# Altium schematic symbol library ecl.SCHLIB: 54 symbols
Pins are listed as number, name and electrical type; pins without a type are passive.

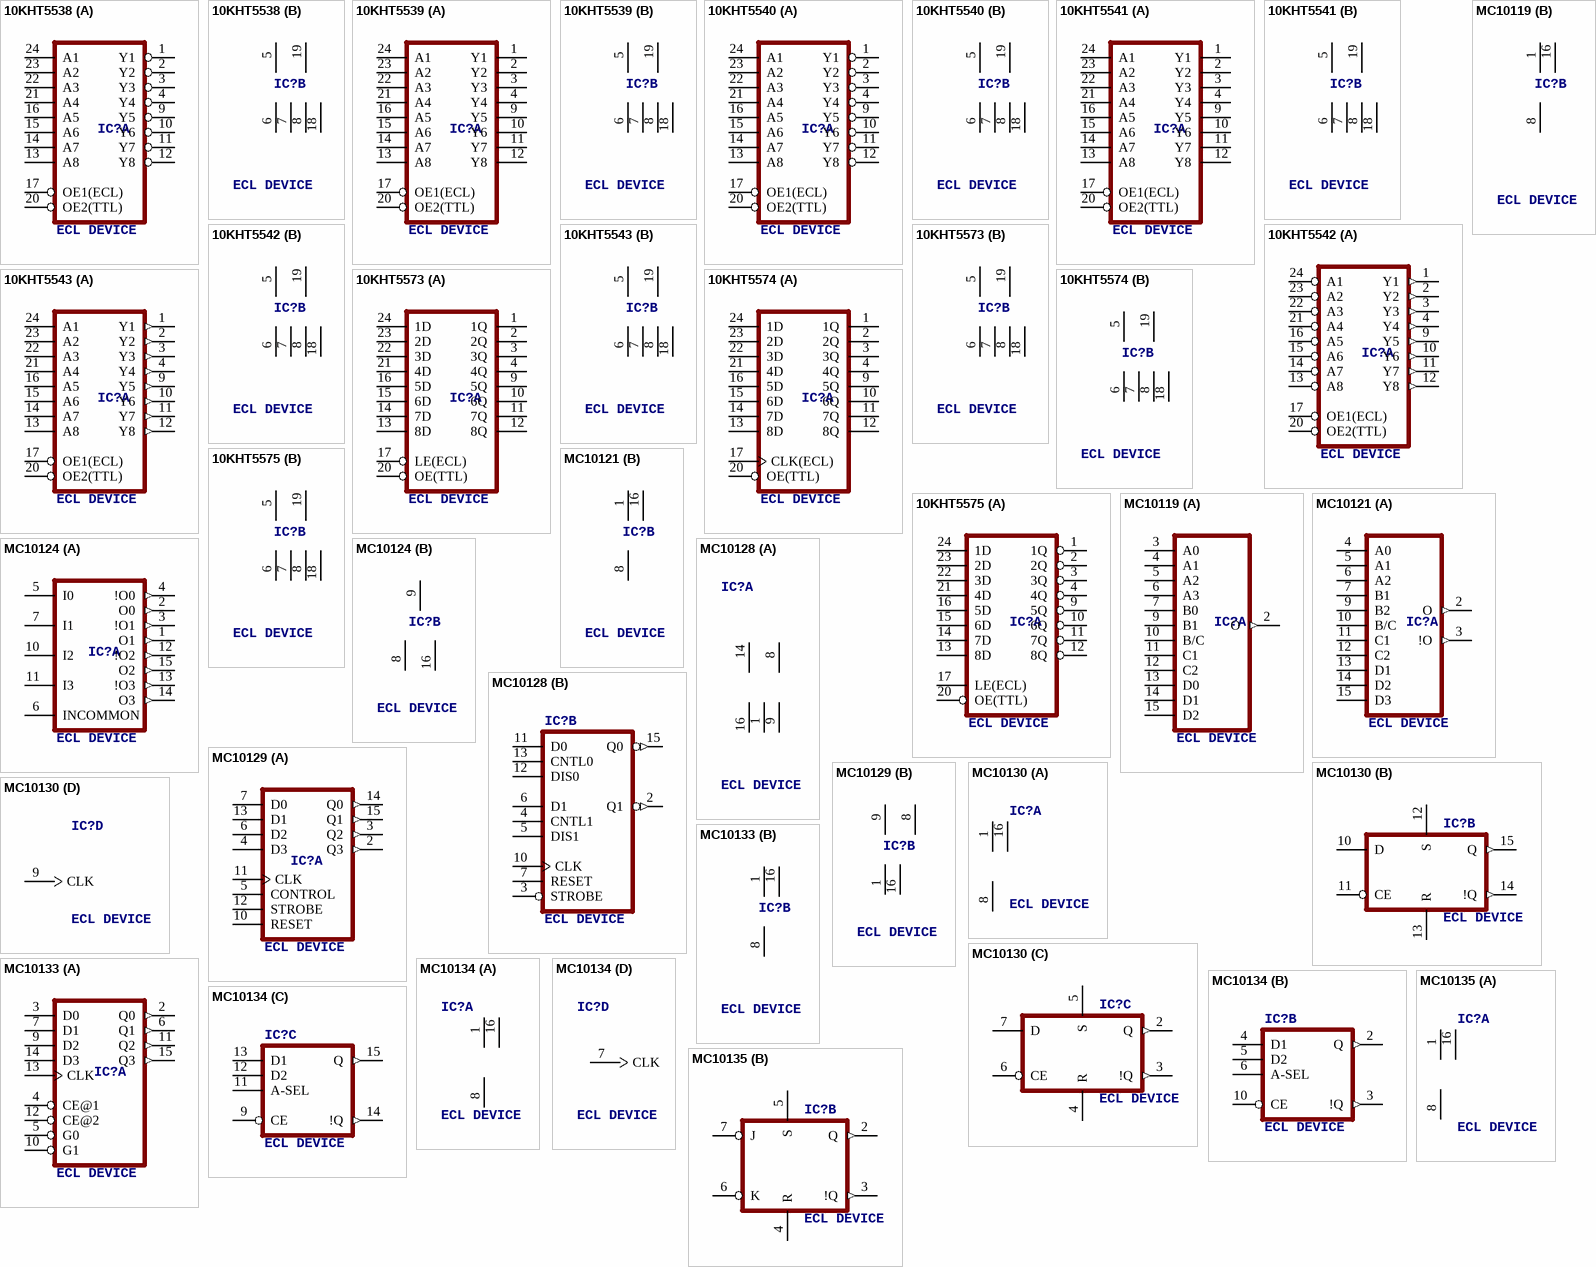
[diagram p0: symbols 10KHT5538 to MC10135]

## 10KHT5538
designator IC?, comment ECL DEVICE
footprint DIL24-3
part A pins: 1 Y1 (oc), 2 Y2 (oc), 3 Y3 (oc), 4 Y4 (oc), 9 Y5 (oc), 10 Y6 (oc), 11 Y7 (oc), 12 Y8 (oc), 13 A8, 14 A7, 15 A6, 16 A5, 17 OE1(ECL), 20 OE2(TTL), 21 A4, 22 A3, 23 A2, 24 A1
part B pins: 5 VCC (power), 6 GND@1 (power), 7 GND@2 (power), 8 GND@3 (power), 18 GND@4 (power), 19 VEE (power)

## 10KHT5539
designator IC?, comment ECL DEVICE
footprint DIL24-3
part A pins: 1 Y1 (oc), 2 Y2 (oc), 3 Y3 (oc), 4 Y4 (oc), 9 Y5 (oc), 10 Y6 (oc), 11 Y7 (oc), 12 Y8 (oc), 13 A8, 14 A7, 15 A6, 16 A5, 17 OE1(ECL), 20 OE2(TTL), 21 A4, 22 A3, 23 A2, 24 A1
part B pins: 5 VCC (power), 6 GND@1 (power), 7 GND@2 (power), 8 GND@3 (power), 18 GND@4 (power), 19 VEE (power)

## 10KHT5540
designator IC?, comment ECL DEVICE
footprint DIL24-3
part A pins: 1 Y1 (hiz), 2 Y2 (hiz), 3 Y3 (hiz), 4 Y4 (hiz), 9 Y5 (hiz), 10 Y6 (hiz), 11 Y7 (hiz), 12 Y8 (hiz), 13 A8, 14 A7, 15 A6, 16 A5, 17 OE1(ECL), 20 OE2(TTL), 21 A4, 22 A3, 23 A2, 24 A1
part B pins: 5 VCC (power), 6 GND@1 (power), 7 GND@2 (power), 8 GND@3 (power), 18 GND@4 (power), 19 VEE (power)

## 10KHT5541
designator IC?, comment ECL DEVICE
footprint DIL24-3
part A pins: 1 Y1 (hiz), 2 Y2 (hiz), 3 Y3 (hiz), 4 Y4 (hiz), 9 Y5 (hiz), 10 Y6 (hiz), 11 Y7 (hiz), 12 Y8 (hiz), 13 A8, 14 A7, 15 A6, 16 A5, 17 OE1(ECL), 20 OE2(TTL), 21 A4, 22 A3, 23 A2, 24 A1
part B pins: 5 VCC (power), 6 GND@1 (power), 7 GND@2 (power), 8 GND@3 (power), 18 GND@4 (power), 19 VEE (power)

## 10KHT5542
designator IC?, comment ECL DEVICE
footprint DIL24-3
part A pins: 1 Y1 (out), 2 Y2 (out), 3 Y3 (out), 4 Y4 (out), 9 Y5 (out), 10 Y6 (out), 11 Y7 (out), 12 Y8 (out), 13 A8, 14 A7, 15 A6, 16 A5, 17 OE1(ECL), 20 OE2(TTL), 21 A4, 22 A3, 23 A2, 24 A1
part B pins: 5 VCC (power), 6 GND@1 (power), 7 GND@2 (power), 8 GND@3 (power), 18 GND@4 (power), 19 VEE (power)

## 10KHT5543
designator IC?, comment ECL DEVICE
footprint DIL24-3
part A pins: 1 Y1 (out), 2 Y2 (out), 3 Y3 (out), 4 Y4 (out), 9 Y5 (out), 10 Y6 (out), 11 Y7 (out), 12 Y8 (out), 13 A8, 14 A7, 15 A6, 16 A5, 17 OE1(ECL), 20 OE2(TTL), 21 A4, 22 A3, 23 A2, 24 A1
part B pins: 5 VCC (power), 6 GND@1 (power), 7 GND@2 (power), 8 GND@3 (power), 18 GND@4 (power), 19 VEE (power)

## 10KHT5573
designator IC?, comment ECL DEVICE
footprint DIL24-3
part A pins: 1 1Q (hiz), 2 2Q (hiz), 3 3Q (hiz), 4 4Q (hiz), 9 5Q (hiz), 10 6Q (hiz), 11 7Q (hiz), 12 8Q (hiz), 13 8D, 14 7D, 15 6D, 16 5D, 17 LE(ECL), 20 OE(TTL), 21 4D, 22 3D, 23 2D, 24 1D
part B pins: 5 VCC (power), 6 GND@1 (power), 7 GND@2 (power), 8 GND@3 (power), 18 GND@4 (power), 19 VEE (power)

## 10KHT5574
designator IC?, comment ECL DEVICE
footprint DIL24-3
part A pins: 1 1Q (hiz), 2 2Q (hiz), 3 3Q (hiz), 4 4Q (hiz), 9 5Q (hiz), 10 6Q (hiz), 11 7Q (hiz), 12 8Q (hiz), 13 8D, 14 7D, 15 6D, 16 5D, 17 CLK(ECL), 20 OE(TTL), 21 4D, 22 3D, 23 2D, 24 1D
part B pins: 5 VCC (power), 6 GND@1 (power), 7 GND@2 (power), 8 GND@3 (power), 18 GND@4 (power), 19 VEE (power)

## 10KHT5575
designator IC?, comment ECL DEVICE
footprint DIL24-3
part A pins: 1 1Q (hiz), 2 2Q (hiz), 3 3Q (hiz), 4 4Q (hiz), 9 5Q (hiz), 10 6Q (hiz), 11 7Q (hiz), 12 8Q (hiz), 13 8D, 14 7D, 15 6D, 16 5D, 17 LE(ECL), 20 OE(TTL), 21 4D, 22 3D, 23 2D, 24 1D
part B pins: 5 VCC (power), 6 GND@1 (power), 7 GND@2 (power), 8 GND@3 (power), 18 GND@4 (power), 19 VEE (power)

## MC10119
designator IC?, comment ECL DEVICE
footprint DIL16
part A pins: 2 O (out), 3 A0, 4 A1, 5 A2, 6 A3, 7 B0, 9 B1, 10 B/C, 11 C1, 12 C2, 13 D0, 14 D1, 15 D2
part B pins: 1 VCC@1 (power), 8 VEE (power), 16 VCC@2 (power)

## MC10121
designator IC?, comment ECL DEVICE
footprint DIL16
part A pins: 2 O (out), 3 !O (out), 4 A0, 5 A1, 6 A2, 7 B1, 9 B2, 10 B/C, 11 C1, 12 C2, 13 D1, 14 D2, 15 D3
part B pins: 1 VCC@1 (power), 8 VEE (power), 16 VCC@2 (power)

## MC10124
designator IC?, comment ECL DEVICE
footprint DIL16
part A pins: 1 O1 (out), 2 O0 (out), 3 !O1 (out), 4 !O0 (out), 5 I0, 6 INCOMMON, 7 I1, 10 I2, 11 I3, 12 !O2 (out), 13 !O3 (out), 14 O3 (out), 15 O2 (out)
part B pins: 8 VEE (power), 9 VCC (power), 16 GND (power)

## MC10128
designator IC?, comment ECL DEVICE
footprint DIL16
part A pins: 1 GND@2 (power), 8 VEE (power), 9 GND@3 (power), 14 VCC (power), 16 GND@1 (power)
part B pins: 2 Q1 (out), 3 STROBE, 4 CNTL1, 5 DIS1, 6 D1, 7 RESET, 10 CLK, 11 D0, 12 DIS0, 13 CNTL0, 15 Q0 (out)

## MC10129
designator IC?, comment ECL DEVICE
footprint DIL16
part A pins: 2 Q3 (out), 3 Q2 (out), 4 D3, 5 CONTROL, 6 D2, 7 D0, 10 RESET, 11 CLK, 12 STROBE, 13 D1, 14 Q0 (out), 15 Q1 (out)
part B pins: 1 GND@1 (power), 8 VEE (power), 9 VCC (power), 16 GND@2 (power)

## MC10130
designator IC?, comment ECL DEVICE
footprint DIL16
part A pins: 1 VCC@1 (power), 8 VEE (power), 16 VCC@2 (power)
part B pins: 10 D, 11 CE, 12 S, 13 R, 14 !Q (out), 15 Q (out)
part C pins: 2 Q (out), 3 !Q (out), 4 R, 5 S, 6 CE, 7 D
part D pins: 9 CLK

## MC10133
designator IC?, comment ECL DEVICE
footprint DIL16
part A pins: 2 Q0 (out), 3 D0, 4 CE@1, 5 G0, 6 Q1 (out), 7 D1, 9 D2, 10 G1, 11 Q2 (out), 12 CE@2, 13 CLK, 14 D3, 15 Q3 (out)
part B pins: 1 VCC@1 (power), 8 VEE (power), 16 VCC@2 (power)

## MC10134
designator IC?, comment ECL DEVICE
footprint DIL16
part A pins: 1 VCC@1 (power), 8 VEE (power), 16 VCC@2 (power)
part B pins: 2 Q (out), 3 !Q (out), 4 D1, 5 D2, 6 A-SEL, 10 CE
part C pins: 9 CE, 11 A-SEL, 12 D2, 13 D1, 14 !Q (out), 15 Q (out)
part D pins: 7 CLK

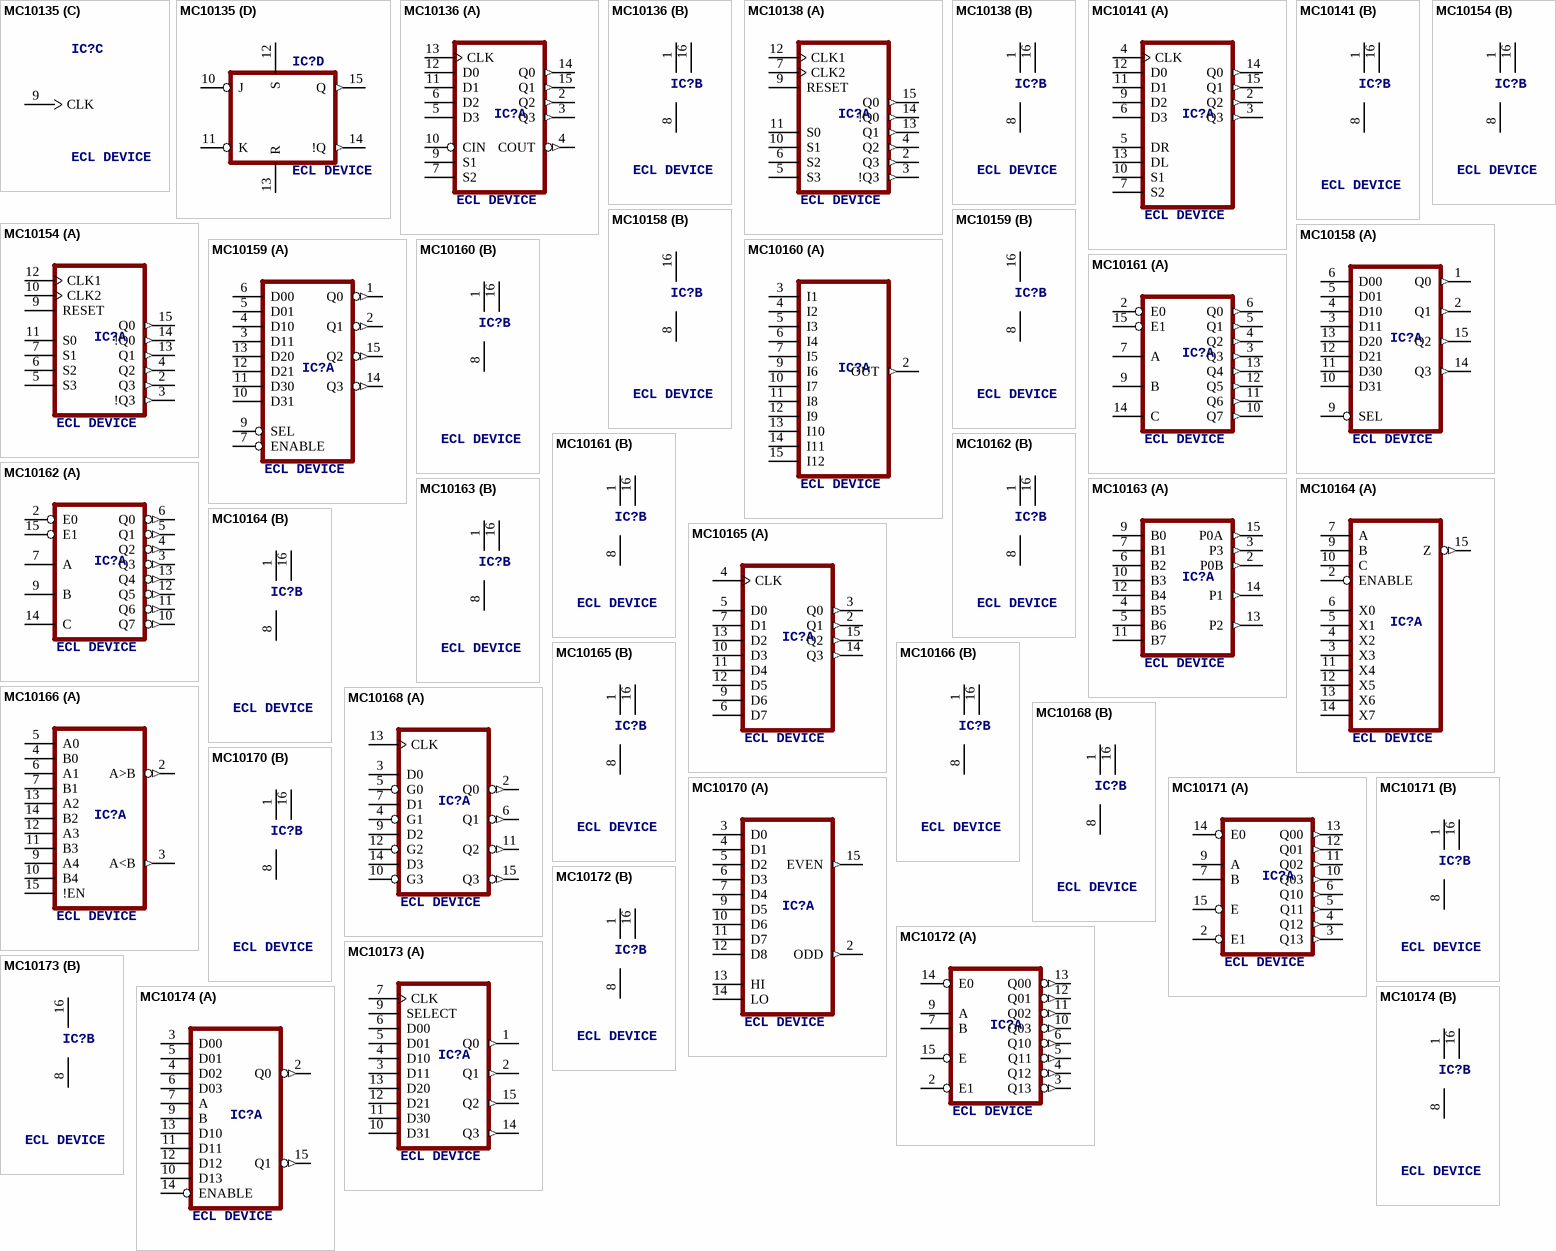
[diagram p1: symbols MC10135 to MC10174]

## MC10135
designator IC?, comment ECL DEVICE
footprint DIL16
part A pins: 1 VCC@1 (power), 8 VEE (power), 16 VCC@2 (power)
part B pins: 2 Q (out), 3 !Q (out), 4 R, 5 S, 6 K, 7 J
part C pins: 9 CLK
part D pins: 10 J, 11 K, 12 S, 13 R, 14 !Q (out), 15 Q (out)

## MC10136
designator IC?, comment ECL DEVICE
footprint DIL16
part A pins: 2 Q2 (out), 3 Q3 (out), 4 COUT (out), 5 D3, 6 D2, 7 S2, 9 S1, 10 CIN, 11 D1, 12 D0, 13 CLK, 14 Q0 (out), 15 Q1 (out)
part B pins: 1 VCC@1 (power), 8 VEE (power), 16 VCC@2 (power)

## MC10138
designator IC?, comment ECL DEVICE
footprint DIL16
part A pins: 2 Q3 (out), 3 !Q3 (out), 4 Q2 (out), 5 S3, 6 S2, 7 CLK2, 9 RESET, 10 S1, 11 S0, 12 CLK1, 13 Q1 (out), 14 !Q0 (out), 15 Q0 (out)
part B pins: 1 VCC@1 (power), 8 VEE (power), 16 VCC@2 (power)

## MC10141
designator IC?, comment ECL DEVICE
footprint DIL16
part A pins: 2 Q2 (out), 3 Q3 (out), 4 CLK, 5 DR, 6 D3, 7 S2, 9 D2, 10 S1, 11 D1, 12 D0, 13 DL, 14 Q0 (out), 15 Q1 (out)
part B pins: 1 VCC@1 (power), 8 VEE (power), 16 VCC@2 (power)

## MC10154
designator IC?, comment ECL DEVICE
footprint DIL16
part A pins: 2 Q3 (out), 3 !Q3 (out), 4 Q2 (out), 5 S3, 6 S2, 7 S1, 9 RESET, 10 CLK2, 11 S0, 12 CLK1, 13 Q1 (out), 14 !Q0 (out), 15 Q0 (out)
part B pins: 1 VCC@1 (power), 8 VEE (power), 16 VCC@2 (power)

## MC10158
designator IC?, comment ECL DEVICE
footprint DIL16
part A pins: 1 Q0 (out), 2 Q1 (out), 3 D11, 4 D10, 5 D01, 6 D00, 9 SEL, 10 D31, 11 D30, 12 D21, 13 D20, 14 Q3 (out), 15 Q2 (out)
part B pins: 8 VEE (power), 16 VCC (power)

## MC10159
designator IC?, comment ECL DEVICE
footprint DIL16
part A pins: 1 Q0 (out), 2 Q1 (out), 3 D11, 4 D10, 5 D01, 6 D00, 7 ENABLE, 9 SEL, 10 D31, 11 D30, 12 D21, 13 D20, 14 Q3 (out), 15 Q2 (out)
part B pins: 8 VEE (power), 16 VCC (power)

## MC10160
designator IC?, comment ECL DEVICE
footprint DIL16
part A pins: 2 OUT (out), 3 I1, 4 I2, 5 I3, 6 I4, 7 I5, 9 I6, 10 I7, 11 I8, 12 I9, 13 I10, 14 I11, 15 I12
part B pins: 1 VCC@1 (power), 8 VEE (power), 16 VCC@2 (power)

## MC10161
designator IC?, comment ECL DEVICE
footprint DIL16
part A pins: 2 E0, 3 Q3 (out), 4 Q2 (out), 5 Q1 (out), 6 Q0 (out), 7 A, 9 B, 10 Q7 (out), 11 Q6 (out), 12 Q5 (out), 13 Q4 (out), 14 C, 15 E1
part B pins: 1 VCC@1 (power), 8 VEE (power), 16 VCC@2 (power)

## MC10162
designator IC?, comment ECL DEVICE
footprint DIL16
part A pins: 2 E0, 3 Q3 (out), 4 Q2 (out), 5 Q1 (out), 6 Q0 (out), 7 A, 9 B, 10 Q7 (out), 11 Q6 (out), 12 Q5 (out), 13 Q4 (out), 14 C, 15 E1
part B pins: 1 VCC@1 (power), 8 VEE (power), 16 VCC@2 (power)

## MC10163
designator IC?, comment ECL DEVICE
footprint DIL16
part A pins: 2 P0B (out), 3 P3 (out), 4 B5, 5 B6, 6 B2, 7 B1, 9 B0, 10 B3, 11 B7, 12 B4, 13 P2 (out), 14 P1 (out), 15 P0A (out)
part B pins: 1 VCC@1 (power), 8 VEE (power), 16 VCC@2 (power)

## MC10164
designator IC?, comment ECL DEVICE
footprint DIL16
part A pins: 2 ENABLE, 3 X3, 4 X2, 5 X1, 6 X0, 7 A, 9 B, 10 C, 11 X4, 12 X5, 13 X6, 14 X7, 15 Z (out)
part B pins: 1 VCC@1 (power), 8 VEE (power), 16 VCC@2 (power)

## MC10165
designator IC?, comment ECL DEVICE
footprint DIL16
part A pins: 2 Q1 (out), 3 Q0 (out), 4 CLK, 5 D0, 6 D7, 7 D1, 9 D6, 10 D3, 11 D4, 12 D5, 13 D2, 14 Q3 (out), 15 Q2 (out)
part B pins: 1 VCC@1 (power), 8 VEE (power), 16 VCC@2 (power)

## MC10166
designator IC?, comment ECL DEVICE
footprint DIL16
part A pins: 2 A>B (out), 3 A<B (out), 4 B0, 5 A0, 6 A1, 7 B1, 9 A4, 10 B4, 11 B3, 12 A3, 13 A2, 14 B2, 15 !EN
part B pins: 1 VCC@1 (power), 8 VEE (power), 16 VCC@2 (power)

## MC10168
designator IC?, comment ECL DEVICE
footprint DIL16
part A pins: 2 Q0 (out), 3 D0, 4 G1, 5 G0, 6 Q1 (out), 7 D1, 9 D2, 10 G3, 11 Q2 (out), 12 G2, 13 CLK, 14 D3, 15 Q3 (out)
part B pins: 1 VCC@1 (power), 8 VEE (power), 16 VCC@2 (power)

## MC10170
designator IC?, comment ECL DEVICE
footprint DIL16
part A pins: 2 ODD (out), 3 D0, 4 D1, 5 D2, 6 D3, 7 D4, 9 D5, 10 D6, 11 D7, 12 D8, 13 HI, 14 LO, 15 EVEN (out)
part B pins: 1 VCC@1 (power), 8 VEE (power), 16 VCC@2 (power)

## MC10171
designator IC?, comment ECL DEVICE
footprint DIL16
part A pins: 2 E1, 3 Q13 (out), 4 Q12 (out), 5 Q11 (out), 6 Q10 (out), 7 B, 9 A, 10 Q03 (out), 11 Q02 (out), 12 Q01 (out), 13 Q00 (out), 14 E0, 15 E
part B pins: 1 VCC@1 (power), 8 VEE (power), 16 VCC@2 (power)

## MC10172
designator IC?, comment ECL DEVICE
footprint DIL16
part A pins: 2 E1, 3 Q13 (out), 4 Q12 (out), 5 Q11 (out), 6 Q10 (out), 7 B, 9 A, 10 Q03 (out), 11 Q02 (out), 12 Q01 (out), 13 Q00 (out), 14 E0, 15 E
part B pins: 1 VCC@1 (power), 8 VEE (power), 16 VCC@2 (power)

## MC10173
designator IC?, comment ECL DEVICE
footprint DIL16
part A pins: 1 Q0 (out), 2 Q1 (out), 3 D11, 4 D10, 5 D01, 6 D00, 7 CLK, 9 SELECT, 10 D31, 11 D30, 12 D21, 13 D20, 14 Q3 (out), 15 Q2 (out)
part B pins: 8 VEE (power), 16 VCC (power)

## MC10174
designator IC?, comment ECL DEVICE
footprint DIL16
part A pins: 2 Q0 (out), 3 D00, 4 D02, 5 D01, 6 D03, 7 A, 9 B, 10 D13, 11 D11, 12 D12, 13 D10, 14 ENABLE, 15 Q1 (out)
part B pins: 1 VCC@1 (power), 8 VEE (power), 16 VCC@2 (power)

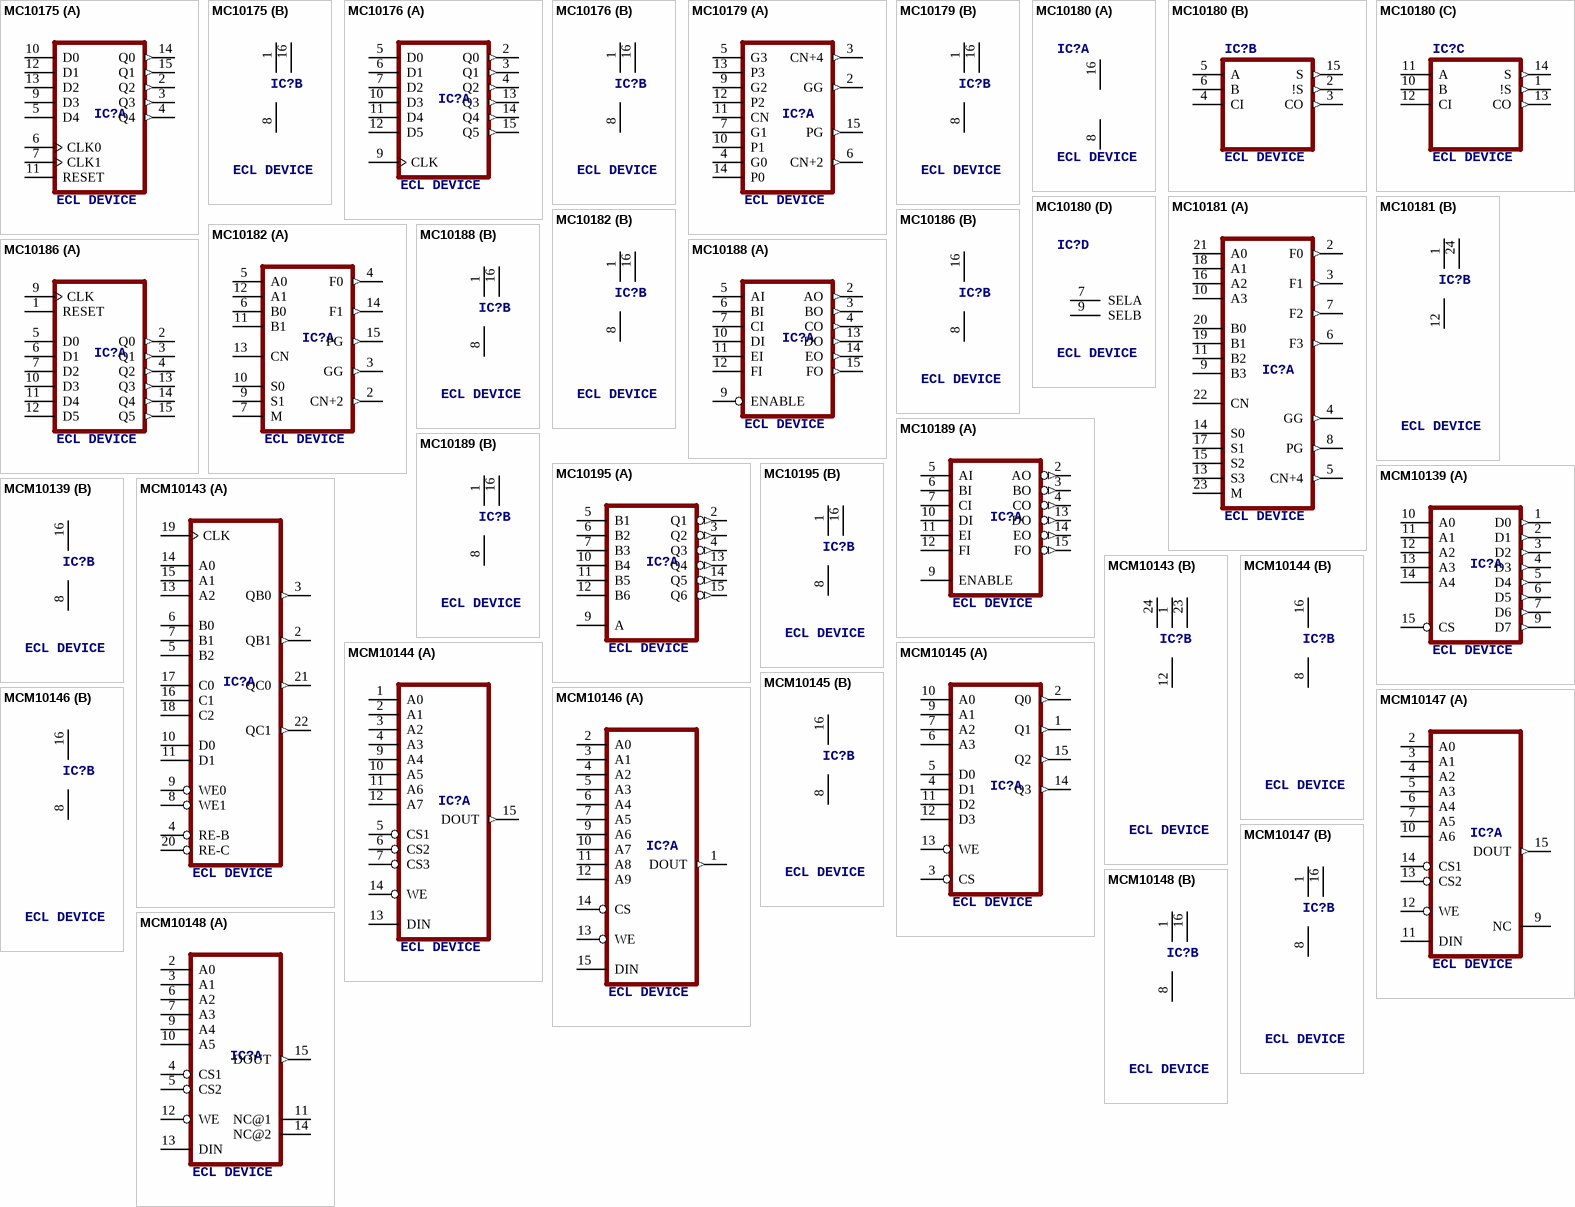
[diagram p2: symbols MC10175 to MCM10148]

## MC10175
designator IC?, comment ECL DEVICE
footprint DIL16
part A pins: 2 Q2 (out), 3 Q3 (out), 4 Q4 (out), 5 D4, 6 CLK0, 7 CLK1, 9 D3, 10 D0, 11 RESET, 12 D1, 13 D2, 14 Q0 (out), 15 Q1 (out)
part B pins: 1 VCC@1 (power), 8 VEE (power), 16 VCC@2 (power)

## MC10176
designator IC?, comment ECL DEVICE
footprint DIL16
part A pins: 2 Q0 (out), 3 Q1 (out), 4 Q2 (out), 5 D0, 6 D1, 7 D2, 9 CLK, 10 D3, 11 D4, 12 D5, 13 Q3 (out), 14 Q4 (out), 15 Q5 (out)
part B pins: 1 VCC@1 (power), 8 VEE (power), 16 VCC@2 (power)

## MC10179
designator IC?, comment ECL DEVICE
footprint DIL16
part A pins: 2 GG (out), 3 CN+4 (out), 4 G0, 5 G3, 6 CN+2 (out), 7 G1, 9 G2, 10 P1, 11 CN, 12 P2, 13 P3, 14 P0, 15 PG (out)
part B pins: 1 VCC@1 (power), 8 VEE (power), 16 VCC@2 (power)

## MC10180
designator IC?, comment ECL DEVICE
footprint DIL16
part A pins: 8 VEE (power), 16 VCC (power)
part B pins: 2 !S (out), 3 CO (out), 4 CI, 5 A, 6 B, 15 S (out)
part C pins: 1 !S (out), 10 B, 11 A, 12 CI, 13 CO (out), 14 S (out)
part D pins: 7 SELA, 9 SELB

## MC10181
designator IC?, comment ECL DEVICE
footprint DIL24-6
part A pins: 2 F0 (out), 3 F1 (out), 4 GG (out), 5 CN+4 (out), 6 F3 (out), 7 F2 (out), 8 PG (out), 9 B3, 10 A3, 11 B2, 13 S3, 14 S0, 15 S2, 16 A2, 17 S1, 18 A1, 19 B1, 20 B0, 21 A0, 22 CN, 23 M
part B pins: 1 VCC@1 (power), 12 VEE (power), 24 VCC@2 (power)

## MC10182
designator IC?, comment ECL DEVICE
footprint DIL16
part A pins: 2 CN+2 (out), 3 GG (out), 4 F0 (out), 5 A0, 6 B0, 7 M, 9 S1, 10 S0, 11 B1, 12 A1, 13 CN, 14 F1 (out), 15 PG (out)
part B pins: 1 VCC@1 (power), 8 VEE (power), 16 VCC@2 (power)

## MC10186
designator IC?, comment ECL DEVICE
footprint DIL16
part A pins: 1 RESET, 2 Q0 (out), 3 Q1 (out), 4 Q2 (out), 5 D0, 6 D1, 7 D2, 9 CLK, 10 D3, 11 D4, 12 D5, 13 Q3 (out), 14 Q4 (out), 15 Q5 (out)
part B pins: 8 VEE (power), 16 VCC (power)

## MC10188
designator IC?, comment ECL DEVICE
footprint DIL16
part A pins: 2 AO (out), 3 BO (out), 4 CO (out), 5 AI, 6 BI, 7 CI, 9 ENABLE, 10 DI, 11 EI, 12 FI, 13 DO (out), 14 EO (out), 15 FO (out)
part B pins: 1 VCC@1 (power), 8 VEE (power), 16 VCC@2 (power)

## MC10189
designator IC?, comment ECL DEVICE
footprint DIL16
part A pins: 2 AO (out), 3 BO (out), 4 CO (out), 5 AI, 6 BI, 7 CI, 9 ENABLE, 10 DI, 11 EI, 12 FI, 13 DO (out), 14 EO (out), 15 FO (out)
part B pins: 1 VCC@1 (power), 8 VEE (power), 16 VCC@2 (power)

## MC10195
designator IC?, comment ECL DEVICE
footprint DIL16
part A pins: 2 Q1 (out), 3 Q2 (out), 4 Q3 (out), 5 B1, 6 B2, 7 B3, 9 A, 10 B4, 11 B5, 12 B6, 13 Q4 (out), 14 Q5 (out), 15 Q6 (out)
part B pins: 1 VCC@1 (power), 8 VEE (power), 16 VCC@2 (power)

## MCM10139
designator IC?, comment ECL DEVICE
footprint DIL16
part A pins: 1 D0 (out), 2 D1 (out), 3 D2 (out), 4 D3 (out), 5 D4 (out), 6 D5 (out), 7 D6 (out), 9 D7 (out), 10 A0, 11 A1, 12 A2, 13 A3, 14 A4, 15 CS
part B pins: 8 VEE (power), 16 VCC (power)

## MCM10143
designator IC?, comment ECL DEVICE
footprint DIL24-6
part A pins: 2 QB1 (out), 3 QB0 (out), 4 RE-B, 5 B2, 6 B0, 7 B1, 8 WE1, 9 WE0, 10 D0, 11 D1, 13 A2, 14 A0, 15 A1, 16 C1, 17 C0, 18 C2, 19 CLK, 20 RE-C, 21 QC0 (out), 22 QC1 (out)
part B pins: 1 VCC@2 (power), 12 VEE (power), 23 VCC@3 (power), 24 VCC@1 (power)

## MCM10144
designator IC?, comment ECL DEVICE
footprint DIL16
part A pins: 1 A0, 2 A1, 3 A2, 4 A3, 5 CS1, 6 CS2, 7 CS3, 9 A4, 10 A5, 11 A6, 12 A7, 13 DIN, 14 WE, 15 DOUT (out)
part B pins: 8 VEE (power), 16 VCC (power)

## MCM10145
designator IC?, comment ECL DEVICE
footprint DIL16
part A pins: 1 Q1 (out), 2 Q0 (out), 3 CS, 4 D1, 5 D0, 6 A3, 7 A2, 9 A1, 10 A0, 11 D2, 12 D3, 13 WE, 14 Q3 (out), 15 Q2 (out)
part B pins: 8 VEE (power), 16 VCC (power)

## MCM10146
designator IC?, comment ECL DEVICE
footprint DIL16
part A pins: 1 DOUT (out), 2 A0, 3 A1, 4 A2, 5 A3, 6 A4, 7 A5, 9 A6, 10 A7, 11 A8, 12 A9, 13 WE, 14 CS, 15 DIN
part B pins: 8 VEE (power), 16 VCC (power)

## MCM10147
designator IC?, comment ECL DEVICE
footprint DIL16
part A pins: 2 A0, 3 A1, 4 A2, 5 A3, 6 A4, 7 A5, 9 NC, 10 A6, 11 DIN, 12 WE, 13 CS2, 14 CS1, 15 DOUT (out)
part B pins: 1 VCC@1 (power), 8 VEE (power), 16 VCC@2 (power)

## MCM10148
designator IC?, comment ECL DEVICE
footprint DIL16
part A pins: 2 A0, 3 A1, 4 CS1, 5 CS2, 6 A2, 7 A3, 9 A4, 10 A5, 11 NC@1, 12 WE, 13 DIN, 14 NC@2, 15 DOUT (out)
part B pins: 1 VCC@1 (power), 8 VEE (power), 16 VCC@2 (power)